# Altium schematic symbol library C12447.SchLib: 1 symbol
Pins are listed as number, name and electrical type; pins without a type are passive.

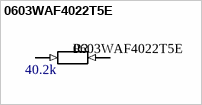
[diagram p0: symbol 0603WAF4022T5E]

## 0603WAF4022T5E
designator R?  value 40.2k
40.2kÎ© Â±1% 100mW 0603 Thick Film Resistor; Name: C12447; Source: LCSC
footprint R0603 (6.8k? ±5% 100mW 0603 Thick Film Resistor AEC-Q200)
pins: 1 (in), 2 (in)